# Altium schematic symbol library GPS_LIB_SCH.SchLib: 21 symbols
Pins are listed as number, name and electrical type; pins without a type are passive.

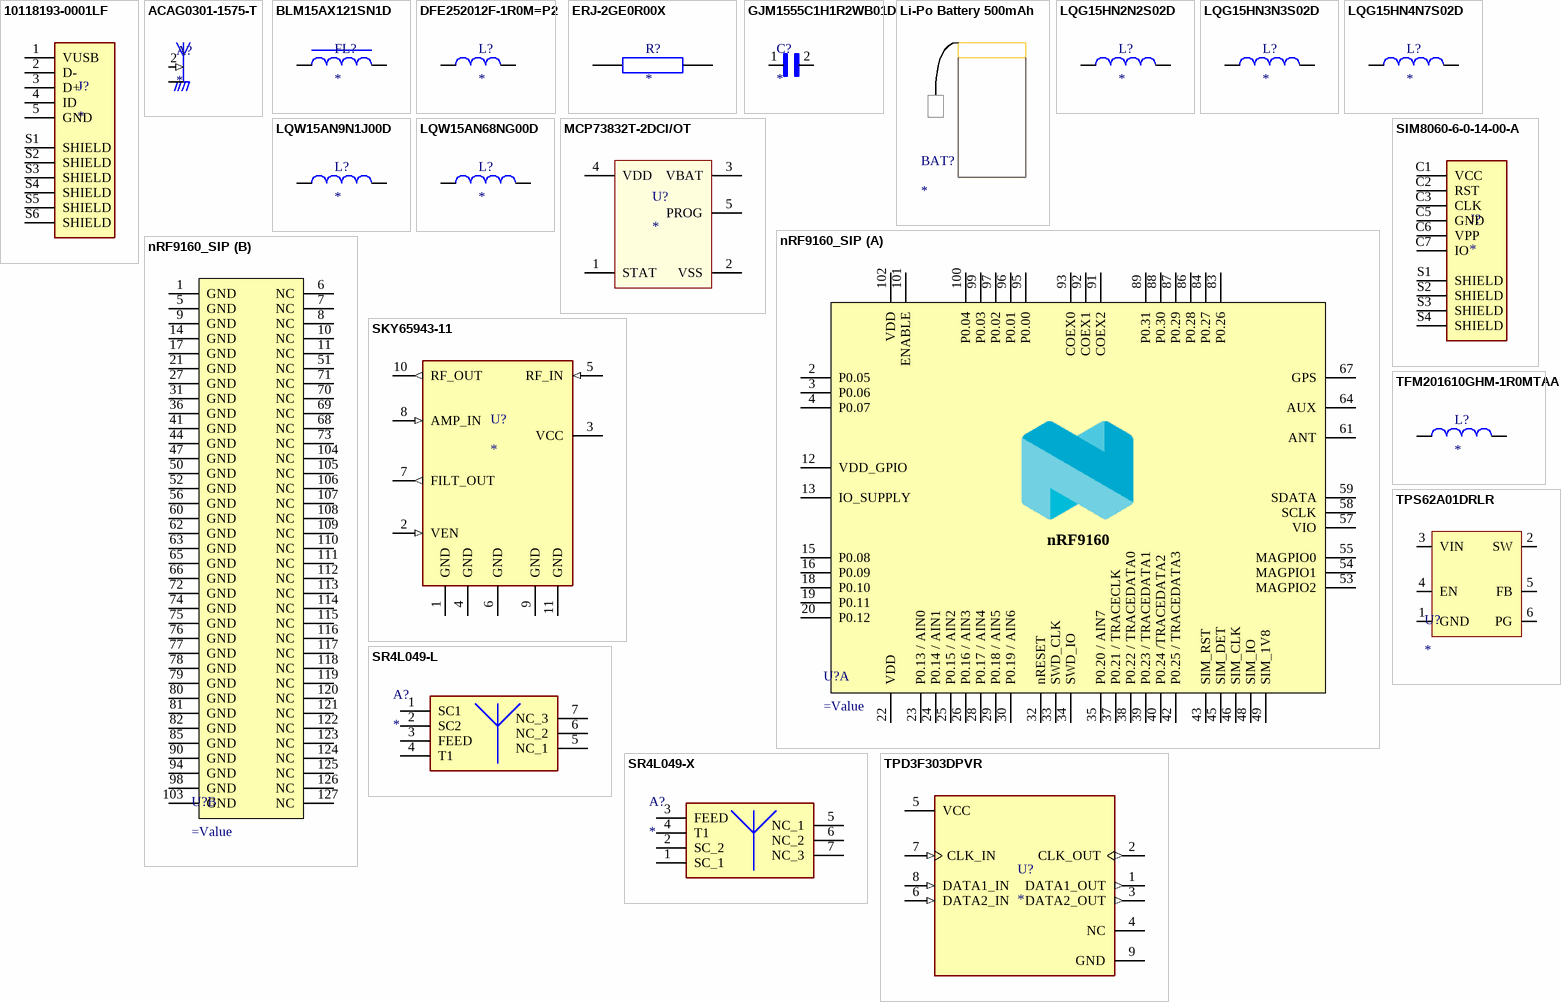
[diagram p0: symbols 10118193-0001LF to TPS62A01DRLR]

## 10118193-0001LF
designator J?
USB - micro B USB 2.0 Receptacle Connector 5 Position Surface Mount, Right Angle; Through Hole; MP: 10118193-0001LF; MF: Amphenol ICC; Availability: Unavailable; SnapEDA_Link: https://www.snapeda.com/parts/10118193-0001LF/Amphenol%20FCI/view-part/2758989/?ref=snap; Price: None; Value: *; Package: None
footprint FCI_10118193-0001LF
pins: 1 VUSB, 2 D-, 3 D+, 4 ID, 5 GND, S1 SHIELD, S2 SHIELD, S3 SHIELD, S4 SHIELD, S5 SHIELD, S6 SHIELD

## ACAG0301-1575-T
designator A?
1.575GHz GPS Chip RF Antenna 1.565GHz ~ 1.585GHz 4.18dBi Solder Surface Mount; MP: ACAG0301-1575-T; MF: Abracon LLC; SnapEDA_Link: https://www.snapeda.com/parts/ACAG0301-1575-T/Abracon%20LLC/view-part/3077605/?ref=snap; Check_prices: https://www.snapeda.com/parts/ACAG0301-1575-T/Abracon%20LLC/view-part/3077605/?ref=eda; Price: None; Availability: In Stock; Purchase-URL: https://pricing.snapeda.com/search/part/ACAG0301-1575-T/?ref=eda; Package: None; Value: *
footprint ANT_ACAG0301-1575-T
pins: 1 2 (power), 2 1 (in), 3 2 (power)

## BLM15AX121SN1D
designator FL?
Ferrite, Bead, 0.13Ohm, 0.7A, 0402; MP: BLM15AX121SN1D; Package: None; Price: None; Value: *; Availability: Unavailable
footprint BEADC1005X55N
pins: 1, 2

## DFE252012F-1R0M=P2
designator L?
Inductor with Inductance: 1uH Tol. +/-20%, Package: 1008 _2520_; MP: DFE252012F-1R0M=P2; MF: Murata Electronics; Package: 2520 Murata; SnapEDA_Link: https://www.snapeda.com/parts/DFE252012F-1R0M%3DP2/Murata%20Electronics%20North%20America/view-part/1498728/?ref=snap; Digi-Key_Purchase_URL: https://www.digikey.ru/product-detail/en/murata-electronics/DFE252012F-1R0M=P2/490-13053-1-ND/5812765?utm_source=snapeda&utm_medium=aggregator&utm_campaign=symbol; Value: *; Digi-Key_Part_Number: 490-13053-1-ND
footprint INDC2520X120N
pins: 1, 2

## ERJ-2GE0R00X
designator R?
0 Ohms Jumper 0.1W, 1/10W Chip Resistor 0402 _1005 Metric_ Automotive AEC-Q200 Thick Film; MF: Panasonic; MP: ERJ-2GE0R00X; Digi-Key_Purchase_URL: https://www.digikey.com/product-detail/en/panasonic-electronic-components/ERJ-2GE0R00X/P0.0JCT-ND/146726?utm_source=snapeda&utm_medium=aggregator&utm_campaign=symbol; Package: 1005 Panasonic Electronic Components; Value: *; SnapEDA_Link: https://www.snapeda.com/parts/ERJ-2GE0R00X/Panasonic%20Electronic%20Components/view-part/410043/?ref=snap; Digi-Key_Part_Number: P0.0JCT-ND
footprint RESC1005X40N
pins: 1, 2

## GJM1555C1H1R2WB01D
designator C?
MP: GJM1555C1H1R2WB01D; Package: None; Price: None; Value: *; Availability: Unavailable
footprint CAPC1005X55N
pins: 1, 2

## Li-Po Battery 500mAh
designator BAT?
footprint Battery 500maH

## LQG15HN2N2S02D
designator L?
Ind RF Chip Multi-Layer 2.2nH 0.3nH 100MHz 8Q-Factor Air 300mA 0402 Paper T/R; MP: LQG15HN2N2S02D; Package: None; Price: None; Value: *; Availability: Unavailable
footprint INDC1005X55N
pins: 1, 2

## LQG15HN3N3S02D
designator L?
Ind RF Chip Multi-Layer 2.2nH 0.3nH 100MHz 8Q-Factor Air 300mA 0402 Paper T/R; MP: LQG15HN2N2S02D; Package: None; Price: None; Value: *; Availability: Unavailable
footprint INDC1005X55N
pins: 1, 2

## LQG15HN4N7S02D
designator L?
Ind RF Chip Multi-Layer 2.2nH 0.3nH 100MHz 8Q-Factor Air 300mA 0402 Paper T/R; MP: LQG15HN2N2S02D; Package: None; Price: None; Value: *; Availability: Unavailable
footprint INDC1005X55N
pins: 1, 2

## LQW15AN9N1J00D
designator L?
Inductor with Inductance: 9.1nH Tol. +/-5%, Package: 0402 (1005); MF: Murata; MP: LQW15AN9N1J00D; Value: *; SnapEDA_Link: https://www.snapeda.com/parts/LQW15AN9N1J00D/Murata+Electronics+North+America/view-part/?ref=snap; Check_prices: https://www.snapeda.com/parts/LQW15AN9N1J00D/Murata+Electronics+North+America/view-part/?ref=eda; Purchase-URL: https://pricing.snapeda.com/search/part/LQW15AN9N1J00D/?ref=eda; Availability: In Stock; Price: None; Package: 1006 Murata
footprint INDC1006X60N
pins: 1, 2

## LQW15AN68NG00D
designator L?
Inductor with Inductance: 68nH Tol. +/-2%, Package: 0402 (1005); MF: Murata; MP: LQW15AN68NG00D; Digi-Key_Part_Number: 490-6837-1-ND; SnapEDA_Link: https://www.snapeda.com/parts/LQW15AN68NG00D/Murata%20Electronics%20North%20America/view-part/1499494/?ref=snap; Package: 1005 Murata; DigiKey-Purchase-URL: https://snapeda.com/shop?store=DigiKey&id=1499494; Value: *; Mouser-Purchase-URL: https://snapeda.com/shop?store=Mouser&id=1499494
footprint INDC1005X60N
pins: 1, 2

## MCP73832T-2DCI/OT
designator U?
Charger IC Lithium Ion/Polymer SOT-23-5; MF: Microchip; MP: MCP73832T-2DCI/OT; SnapEDA_Link: https://www.snapeda.com/parts/MCP73832T-2DCI/OT/Microchip/view-part/45011/?ref=snap; Mouser-Purchase-URL: https://snapeda.com/shop?store=Mouser&id=45011; Availability: Warning; Package: SOT-23 Microchip; Value: *; Price: None
footprint SOT95P280X145-5N
pins: 1 STAT, 2 VSS, 3 VBAT, 4 VDD, 5 PROG

## nRF9160_SIP
designator U?
footprint nRF9160_SIP
part A pins: 1 GND hidden to GND, 2 P0.05 "Digital I/O (SoC)", 3 P0.06 "Digital I/O (SoC)", 4 P0.07 "Digital I/O (SoC)", 5 GND hidden to GND, 9 GND hidden to GND, 12 VDD_GPIO, 13 IO_SUPPLY, 14 GND hidden to GND, 15 P0.08 "Digital I/O (SoC)", 16 P0.09 "Digital I/O (SoC)", 17 GND hidden to GND, 18 P0.10 "Digital I/O (SoC)", 19 P0.11, 20 P0.12 "Digital I/O (SoC)", 21 GND hidden to GND, 22 VDD, 23 P0.13 / AIN0 "Digital I/O (SoC) / Analog Input", 24 P0.14 / AIN1 "Digital I/O (SoC) / Analog Input", 25 P0.15 / AIN2 "Digital I/O (SoC) / Analog Input", 26 P0.16 / AIN3 "Digital I/O (SoC) / Analog Input", 27 GND hidden to GND, 28 P0.17 / AIN4 "Digital I/O (SoC) / Analog Input", 29 P0.18 / AIN5 "Digital I/O (SoC) / Analog Input", 30 P0.19 / AIN6 "Digital I/O (SoC) / Analog Input", 31 GND hidden to GND, 32 nRESET, 33 SWD_CLK, 34 SWD_IO, 35 P0.20 / AIN7 "Digital I/O (SoC) / Analog Input", 36 GND hidden to GND, 37 P0.21 / TRACECLK "Digital I/O (SoC) / Trace Clock", 38 P0.22 / TRACEDATA0 "Digital I/O (SoC) / Trace Data", 39 P0.23 / TRACEDATA1 "Digital I/O (SoC) / Trace Data", 40 P0.24 /TRACEDATA2 "Digital I/O (SoC) / Trace Data", 41 GND hidden to GND, 42 P0.25 / TRACEDATA3 "Digital I/O (SoC) / Trace Data", 43 SIM_RST, 44 GND hidden to GND, 45 SIM_DET, 46 SIM_CLK, 47 GND hidden to GND, 48 SIM_IO, 49 SIM_1V8, 50 GND hidden to GND, 52 GND hidden to GND, 53 MAGPIO2, 54 MAGPIO1, 55 MAGPIO0, 56 GND hidden to GND, 57 VIO, 58 SCLK, 59 SDATA, 60 GND hidden to GND, 61 ANT, 62 GND hidden to GND, 63 GND hidden to GND, 64 AUX, 65 GND hidden to GND, 66 GND hidden to GND, 67 GPS, 72 GND hidden to GND, 74 GND hidden to GND, 75 GND hidden to GND, 76 GND hidden to GND, 77 GND hidden to GND, 78 GND hidden to GND, 79 GND hidden to GND, 80 GND hidden to GND, 81 GND hidden to GND, 82 GND hidden to GND, 83 P0.26, 84 P0.27, 85 GND hidden to GND, 86 P0.28, 87 P0.29, 88 P0.30, 89 P0.31, 90 GND hidden to GND, 91 COEX2, 92 COEX1, 93 COEX0, 94 GND hidden to GND, 95 P0.00, 96 P0.01, 97 P0.02, 98 GND hidden to GND, 99 P0.03, 100 P0.04, 101 ENABLE, 102 VDD, 103 GND hidden to GND
part B pins: 1 GND, 5 GND, 6 NC, 7 NC, 8 NC, 9 GND, 10 NC, 11 NC, 14 GND, 17 GND, 21 GND, 27 GND, 31 GND, 36 GND, 41 GND, 44 GND, 47 GND, 50 GND, 51 NC, 52 GND, 56 GND, 60 GND, 62 GND, 63 GND, 65 GND, 66 GND, 68 NC, 69 NC, 70 NC, 71 NC, 72 GND, 73 NC, 74 GND, 75 GND, 76 GND, 77 GND, 78 GND, 79 GND, 80 GND, 81 GND, 82 GND, 85 GND, 90 GND, 94 GND, 98 GND, 103 GND, 104 NC, 105 NC, 106 NC, 107 NC, 108 NC, 109 NC, 110 NC, 111 NC, 112 NC, 113 NC, 114 NC, 115 NC, 116 NC, 117 NC, 118 NC, 119 NC, 120 NC, 121 NC, 122 NC, 123 NC, 124 NC, 125 NC, 126 NC, 127 NC
part A text: nRF9160

## SIM8060-6-0-14-00-A
designator J?
6 Position Card Connector NANO SIM Surface Mount, Right Angle Gold; MP: SIM8060-6-0-14-00-A; MF: Global Connector Technology; Package: Package Analog Devices; Price: None; Availability: Unavailable; SnapEDA_Link: https://www.snapeda.com/parts/SIM8060-6-0-14-00-A/Global%20Connector%20Technology/view-part/3214904/?ref=snap; Value: *
footprint GCT_SIM8060-6-0-14-00-A
pins: C1 VCC, C2 RST, C3 CLK, C5 GND, C6 VPP, C7 IO, S1 SHIELD, S2 SHIELD, S3 SHIELD, S4 SHIELD

## SKY65943-11
designator U?
RF Front End 1.559GHz ~ 1.606GHz Galileo, GLONASS, GNSS, GPS 10-MCM (2.5x2.5); MP: SKY65943-11; MF: Skyworks Solutions Inc.; Check_prices: https://www.snapeda.com/parts/SKY65943-11/Skyworks%20Solutions%20Inc./view-part/3740345/?ref=eda; Availability: Warning; Price: None; Package: SMD-10 Skyworks Solutions Inc.; Value: *; SnapEDA_Link: https://www.snapeda.com/parts/SKY65943-11/Skyworks%20Solutions%20Inc./view-part/3740345/?ref=snap; Purchase-URL: https://pricing.snapeda.com/search/part/SKY65943-11/?ref=eda
footprint IC_SKY65943-11
pins: 1 GND, 2 VEN (in), 3 VCC, 4 GND, 5 RF_IN (in), 6 GND, 7 FILT_OUT (out), 8 AMP_IN (in), 9 GND, 10 RF_OUT (out), 11 GND

## SR4L049-L
designator A?
Antenna; Manufacturer_Name: Antenova; Manufacturer_Part_Number: SR4L049-L; Height: 3.4mm
footprint SR4L049L
pins: 1 SC1, 2 SC2, 3 FEED, 4 T1, 5 NC_1, 6 NC_2, 7 NC_3

## SR4L049-X
designator A?
Antenna; Manufacturer_Name: Antenova; Manufacturer_Part_Number: SR4L049-R; Datasheet Link: https://componentsearchengine.com/Datasheets/1/SR4L049-R.pdf; Height: 3.4mm
footprint SR4L049R
footprint SR4L049L
pins: 1 SC_1, 2 SC_2, 3 FEED, 4 T1, 5 NC_1, 6 NC_2, 7 NC_3

## TFM201610GHM-1R0MTAA
designator L?
footprint INDC2016X100N
pins: 1, 2

## TPD3F303DPVR
designator U?
None <a href="https://snapeda.com/parts/TPD3F303DPVR/Texas%20Instruments/view-part/?ref=eda">Check prices</a>; Price: None; Package: None; Availability: Unavailable; MP: TPD3F303DPVR; Value: *
footprint SON50P210X160X65-9N
pins: 1 DATA1_OUT (out), 2 CLK_OUT (out), 3 DATA2_OUT (out), 4 NC, 5 VCC (power), 6 DATA2_IN (in), 7 CLK_IN (in), 8 DATA1_IN (in), 9 GND (power)

## TPS62A01DRLR
designator U?
footprint TPS62A01DRLR
pins: 1 GND, 2 SW, 3 VIN, 4 EN, 5 FB, 6 PG